# Altium schematic symbol library kmilo17pet-PIC16_Part2.SchLib: 1569 symbols (part 45 of 56)
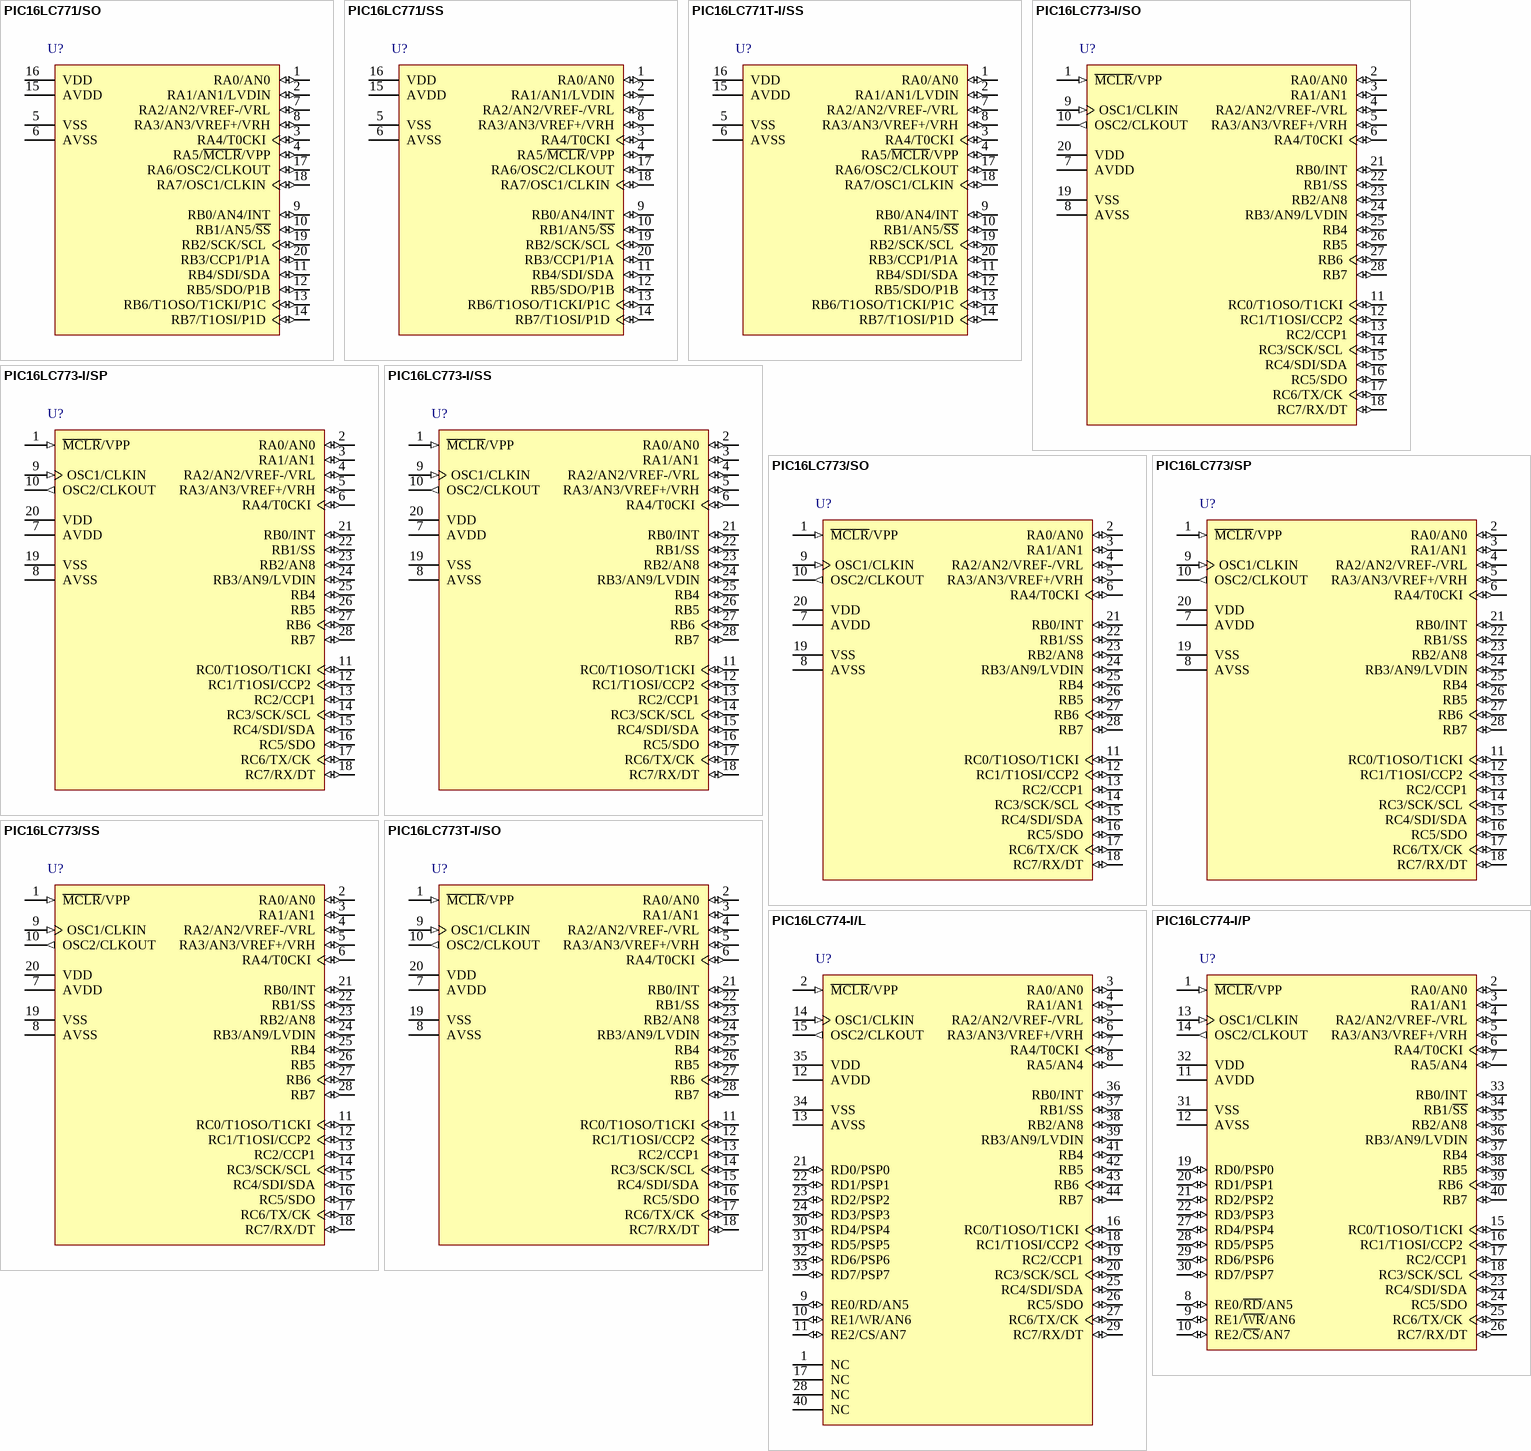
[diagram p169: symbols PIC16LC771/SO to PIC16LC774-I/P]

## PIC16LC773/SS
designator U?
8-Bit CMOS Microcontroller with 12-Bit A/D, 4K (x14-Bit words) Program Memory, 256 Bytes Data Memory, 28-Pin SSOP, Extended VDD Range, Commercial Temperature; Manufacturer: Microchip; PartNumber: PIC16LC773/SS; DatasheetVersion: revA, 1999; PackageVersion: revBB, Aug-2009; PackageReference: SSOP-SS28; PackageDescription: 28-Lead Plastic Shrink Small Outline (SS) - 5.3mm Body [SSOP]; Supplier 1: Digi-Key; Supplier Part Number 1: PIC16LC773/SS-ND; Supplier 2: Mouser; Supplier Part Number 2: 579-PIC16LC773/SS; Code_JEDEC: MS-150; ComponentLink1Description: Manufacturer URL; ComponentLink1URL: http://www.microchip.com/; ComponentLink2Description: Datasheet; ComponentLink2URL: http://ww1.microchip.com/downloads/en/DeviceDoc/30275a.pdf; ComponentLink3Description: Package Specification; ComponentLink3URL: http://www.microchip.com/stellent/groups/techpub_sg/documents/packagingspec/en012702.pdf
footprint SSOP-SS28_N (SOP, 28-Leads, Body 10.2x5.2mm, Pitch 0.65mm, IPC Medium Density)
footprint SSOP-SS28_L (SOP, 28-Leads, Body 10.2x5.2mm, Pitch 0.65mm, IPC High Density)
footprint SSOP-SS28_M (SOP, 28-Leads, Body 10.2x5.2mm, Pitch 0.65mm, IPC Low Density)
pins: 1 ~{MCLR}/VPP (in), 2 RA0/AN0 (io), 3 RA1/AN1 (io), 4 RA2/AN2/VREF-/VRL (io), 5 RA3/AN3/VREF+/VRH (io), 6 RA4/T0CKI (io), 7 AVDD (power), 8 AVSS (power), 9 OSC1/CLKIN (in), 10 OSC2/CLKOUT (out), 11 RC0/T1OSO/T1CKI (io), 12 RC1/T1OSI/CCP2 (io), 13 RC2/CCP1 (io), 14 RC3/SCK/SCL (io), 15 RC4/SDI/SDA (io), 16 RC5/SDO (io), 17 RC6/TX/CK (io), 18 RC7/RX/DT (io), 19 VSS (power), 20 VDD (power), 21 RB0/INT (io), 22 RB1/SS (io), 23 RB2/AN8 (io), 24 RB3/AN9/LVDIN (io), 25 RB4 (io), 26 RB5 (io), 27 RB6 (io), 28 RB7 (io)

## PIC16LC773T-I/SO
designator U?
8-Bit CMOS Microcontroller with 12-Bit A/D, 4K (x14-Bit words) Program Memory, 256 Bytes Data Memory, 28-Pin SOIC, Extended VDD Range, Industrial Temperature, Tape and Reel; Manufacturer: Microchip; PartNumber: PIC16LC773T-I/SO; DatasheetVersion: revA, 1999; PackageVersion: revBB, Aug-2009; PackageReference: SOIC-SO28; PackageDescription: 28-Lead Plastic Small Outline (SO) - Wide 7.50mm Body [SOIC]; Supplier 1: Digi-Key; Supplier Part Number 1: PIC16LC773T-I/SO-ND; Supplier 2: Mouser; Supplier Part Number 2: 579-PIC16LC773T-I/SO; Code_JEDEC: MS-013; ComponentLink1Description: Manufacturer URL; ComponentLink1URL: http://www.microchip.com/; ComponentLink2Description: Datasheet; ComponentLink2URL: http://ww1.microchip.com/downloads/en/DeviceDoc/30275a.pdf; ComponentLink3Description: Package Specification; ComponentLink3URL: http://www.microchip.com/stellent/groups/techpub_sg/documents/packagingspec/en012702.pdf
footprint SOIC-SO28_N (SOIC, 28-Leads, Body 17.9x7.5mm, Pitch 1.27mm, IPC Medium Density)
footprint SOIC-SO28_L (SOIC, 28-Leads, Body 17.9x7.5mm, Pitch 1.27mm, IPC High Density)
footprint SOIC-SO28_M (SOIC, 28-Leads, Body 17.9x7.5mm, Pitch 1.27mm, IPC Low Density)
pins: 1 ~{MCLR}/VPP (in), 2 RA0/AN0 (io), 3 RA1/AN1 (io), 4 RA2/AN2/VREF-/VRL (io), 5 RA3/AN3/VREF+/VRH (io), 6 RA4/T0CKI (io), 7 AVDD (power), 8 AVSS (power), 9 OSC1/CLKIN (in), 10 OSC2/CLKOUT (out), 11 RC0/T1OSO/T1CKI (io), 12 RC1/T1OSI/CCP2 (io), 13 RC2/CCP1 (io), 14 RC3/SCK/SCL (io), 15 RC4/SDI/SDA (io), 16 RC5/SDO (io), 17 RC6/TX/CK (io), 18 RC7/RX/DT (io), 19 VSS (power), 20 VDD (power), 21 RB0/INT (io), 22 RB1/SS (io), 23 RB2/AN8 (io), 24 RB3/AN9/LVDIN (io), 25 RB4 (io), 26 RB5 (io), 27 RB6 (io), 28 RB7 (io)

## PIC16LC774-I/L
designator U?
8-Bit CMOS Microcontroller with 12-Bit A/D, 4K (x14-Bit words) Program Memory, 256 Bytes Data Memory, 44-Pin PLCC, Extended VDD Range, Industrial Temperature; Manufacturer: Microchip; PartNumber: PIC16LC774-I/L; DatasheetVersion: revA, 1999; PackageVersion: revBB, Aug-2009; PackageReference: PLCC-L44; PackageDescription: 44-Lead Plastic Leaded Chip Carrier (L) - Square [PLCC]; Supplier 1: Digi-Key; Supplier Part Number 1: PIC16LC774-I/L-ND; Supplier 2: Mouser; Supplier Part Number 2: 579-PIC16LC774-I/L; Code_JEDEC: MO-047; Code_IPC: PLCC-44; ComponentLink1Description: Manufacturer URL; ComponentLink1URL: http://www.microchip.com/; ComponentLink2Description: Datasheet; ComponentLink2URL: http://ww1.microchip.com/downloads/en/DeviceDoc/30275a.pdf; ComponentLink3Description: Package Specification; ComponentLink3URL: http://www.microchip.com/stellent/groups/techpub_sg/documents/packagingspec/en012702.pdf
footprint PLCC-L44_N (Leaded Chip Carrier, 44-Leads, Body 16.6x16.6mm, Pitch 1.27mm, IPC Medium Density)
footprint PLCC-L44_L (Leaded Chip Carrier, 44-Leads, Body 16.6x16.6mm, Pitch 1.27mm, IPC High Density)
footprint PLCC-L44_M (Leaded Chip Carrier, 44-Leads, Body 16.6x16.6mm, Pitch 1.27mm, IPC Low Density)
pins: 1 NC, 2 ~{MCLR}/VPP (in), 3 RA0/AN0 (io), 4 RA1/AN1 (io), 5 RA2/AN2/VREF-/VRL (io), 6 RA3/AN3/VREF+/VRH (io), 7 RA4/T0CKI (io), 8 RA5/AN4 (io), 9 RE0/RD/AN5 (io), 10 RE1/WR/AN6 (io), 11 RE2/CS/AN7 (io), 12 AVDD (power), 13 AVSS (power), 14 OSC1/CLKIN (in), 15 OSC2/CLKOUT (out), 16 RC0/T1OSO/T1CKI (io), 17 NC, 18 RC1/T1OSI/CCP2 (io), 19 RC2/CCP1 (io), 20 RC3/SCK/SCL (io), 21 RD0/PSP0 (io), 22 RD1/PSP1 (io), 23 RD2/PSP2 (io), 24 RD3/PSP3 (io), 25 RC4/SDI/SDA (io), 26 RC5/SDO (io), 27 RC6/TX/CK (io), 28 NC, 29 RC7/RX/DT (io), 30 RD4/PSP4 (io), 31 RD5/PSP5 (io), 32 RD6/PSP6 (io), 33 RD7/PSP7 (io), 34 VSS (power), 35 VDD (power), 36 RB0/INT (io), 37 RB1/SS (io), 38 RB2/AN8 (io), 39 RB3/AN9/LVDIN (io), 40 NC, 41 RB4 (io), 42 RB5 (io), 43 RB6 (io), 44 RB7 (io)

## PIC16LC774-I/P
designator U?
8-Bit CMOS Microcontroller with 12-Bit A/D, 4K (x14-Bit words) Program Memory, 256 Bytes Data Memory, 40-Pin PDIP, Extended VDD Range, Industrial Temperature; Manufacturer: Microchip; PartNumber: PIC16LC774-I/P; DatasheetVersion: revA, 1999; PackageVersion: revBB, Aug-2009; PackageReference: PDIP600-P40; PackageDescription: 40-Lead Plastic Dual In-Line (P) - 600 mil Body [PDIP]; Supplier 1: Digi-Key; Supplier Part Number 1: PIC16LC774-I/P-ND; Supplier 2: Mouser; Supplier Part Number 2: 579-PIC16LC774-I/P; ComponentLink1Description: Manufacturer URL; ComponentLink1URL: http://www.microchip.com/; ComponentLink2Description: Datasheet; ComponentLink2URL: http://ww1.microchip.com/downloads/en/DeviceDoc/30275a.pdf; ComponentLink3Description: Package Specification; ComponentLink3URL: http://www.microchip.com/stellent/groups/techpub_sg/documents/packagingspec/en012702.pdf
footprint PDIP600-P40 (DIP, 40-Leads, Row Spacing 15.24mm, Pitch 2.54mm, Body 51.8x13.5mm)
pins: 1 ~{MCLR}/VPP (in), 2 RA0/AN0 (io), 3 RA1/AN1 (io), 4 RA2/AN2/VREF-/VRL (io), 5 RA3/AN3/VREF+/VRH (io), 6 RA4/T0CKI (io), 7 RA5/AN4 (io), 8 RE0/~{RD}/AN5 (io), 9 RE1/~{WR}/AN6 (io), 10 RE2/~{CS}/AN7 (io), 11 AVDD (power), 12 AVSS (power), 13 OSC1/CLKIN (in), 14 OSC2/CLKOUT (out), 15 RC0/T1OSO/T1CKI (io), 16 RC1/T1OSI/CCP2 (io), 17 RC2/CCP1 (io), 18 RC3/SCK/SCL (io), 19 RD0/PSP0 (io), 20 RD1/PSP1 (io), 21 RD2/PSP2 (io), 22 RD3/PSP3 (io), 23 RC4/SDI/SDA (io), 24 RC5/SDO (io), 25 RC6/TX/CK (io), 26 RC7/RX/DT (io), 27 RD4/PSP4 (io), 28 RD5/PSP5 (io), 29 RD6/PSP6 (io), 30 RD7/PSP7 (io), 31 VSS (power), 32 VDD (power), 33 RB0/INT (io), 34 RB1/~{SS} (io), 35 RB2/AN8 (io), 36 RB3/AN9/LVDIN (io), 37 RB4 (io), 38 RB5 (io), 39 RB6 (io), 40 RB7 (io)

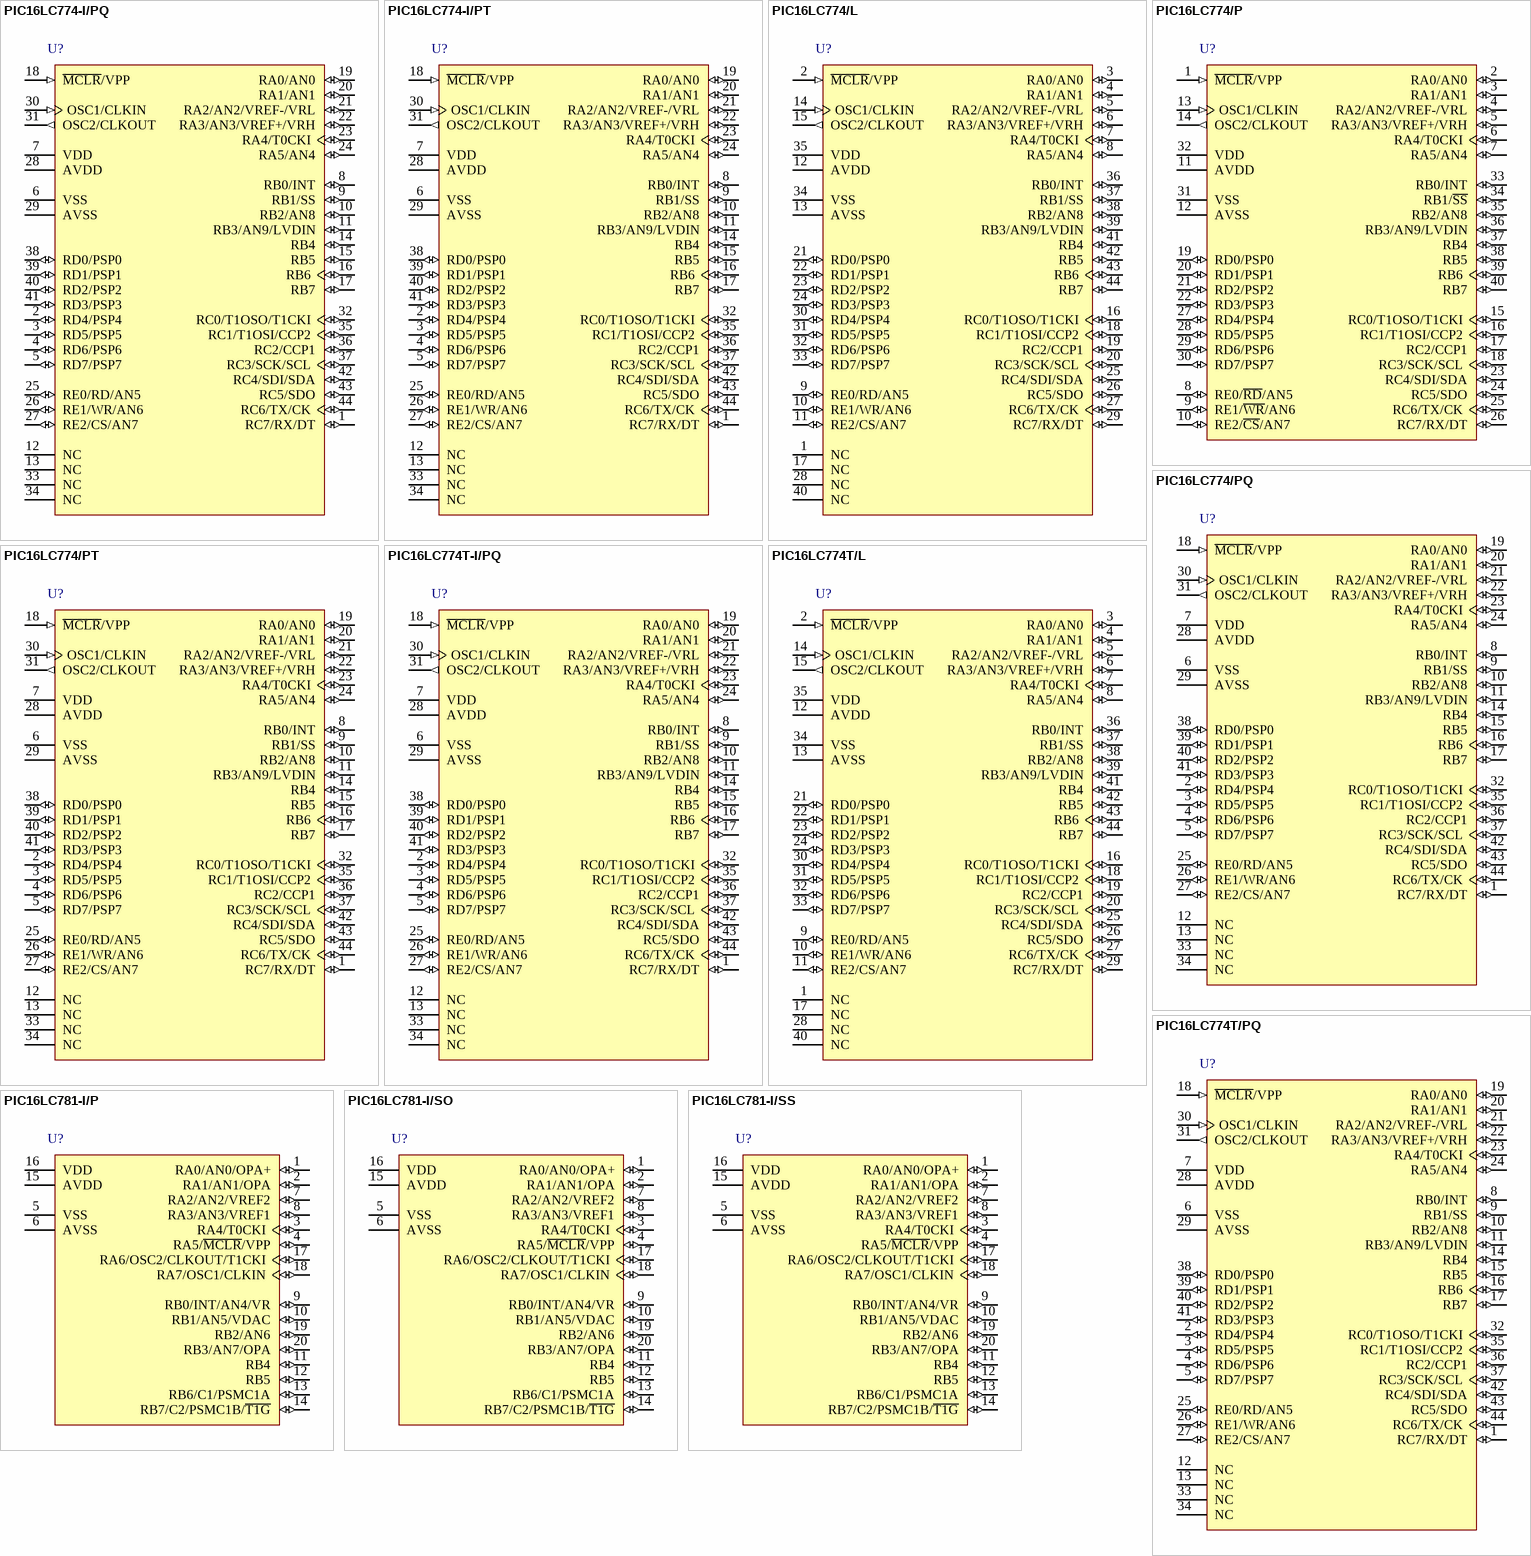
[diagram p96: symbols PIC16LC774-I/PQ to PIC16LC781-I/SS]

## PIC16LC774-I/PQ
designator U?
8-Bit CMOS Microcontroller with 12-Bit A/D, 4K (x14-Bit words) Program Memory, 256 Bytes Data Memory, 44-Pin MQFP, Extended VDD Range, Industrial Temperature; Manufacturer: Microchip; PartNumber: PIC16LC774-I/PQ; DatasheetVersion: revA, 1999; PackageVersion: revBB, Aug-2009; PackageReference: MQFP-PQ44; PackageDescription: 44-Lead Plastic Metric Quad Flatpack (PQ) - 10x10x2mm Body, 3.20mm [MQFP]; Supplier 1: Digi-Key; Supplier Part Number 1: PIC16LC774-I/PQ-ND; Supplier 2: Mouser; Supplier Part Number 2: 579-PIC16LC774-I/PQ; Code_JEDEC: MS-022; Code_IPC: QFP80P1320X1320-44; ComponentLink1Description: Manufacturer URL; ComponentLink1URL: http://www.microchip.com/; ComponentLink2Description: Datasheet; ComponentLink2URL: http://ww1.microchip.com/downloads/en/DeviceDoc/30275a.pdf; ComponentLink3Description: Package Specification; ComponentLink3URL: http://www.microchip.com/stellent/groups/techpub_sg/documents/packagingspec/en012702.pdf
footprint MQFP-PQ44_N (QFP, 44-Leads, Body 10x10mm, Pitch 0.8mm, IPC Medium Density)
footprint MQFP-PQ44_L (QFP, 44-Leads, Body 10x10mm, Pitch 0.8mm, IPC High Density)
footprint MQFP-PQ44_M (QFP, 44-Leads, Body 10x10mm, Pitch 0.8mm, IPC Low Density)
pins: 1 RC7/RX/DT (io), 2 RD4/PSP4 (io), 3 RD5/PSP5 (io), 4 RD6/PSP6 (io), 5 RD7/PSP7 (io), 6 VSS (power), 7 VDD (power), 8 RB0/INT (io), 9 RB1/SS (io), 10 RB2/AN8 (io), 11 RB3/AN9/LVDIN (io), 12 NC, 13 NC, 14 RB4 (io), 15 RB5 (io), 16 RB6 (io), 17 RB7 (io), 18 ~{MCLR}/VPP (in), 19 RA0/AN0 (io), 20 RA1/AN1 (io), 21 RA2/AN2/VREF-/VRL (io), 22 RA3/AN3/VREF+/VRH (io), 23 RA4/T0CKI (io), 24 RA5/AN4 (io), 25 RE0/RD/AN5 (io), 26 RE1/WR/AN6 (io), 27 RE2/CS/AN7 (io), 28 AVDD (power), 29 AVSS (power), 30 OSC1/CLKIN (in), 31 OSC2/CLKOUT (out), 32 RC0/T1OSO/T1CKI (io), 33 NC, 34 NC, 35 RC1/T1OSI/CCP2 (io), 36 RC2/CCP1 (io), 37 RC3/SCK/SCL (io), 38 RD0/PSP0 (io), 39 RD1/PSP1 (io), 40 RD2/PSP2 (io), 41 RD3/PSP3 (io), 42 RC4/SDI/SDA (io), 43 RC5/SDO (io), 44 RC6/TX/CK (io)

## PIC16LC774-I/PT
designator U?
8-Bit CMOS Microcontroller with 12-Bit A/D, 4K (x14-Bit words) Program Memory, 256 Bytes Data Memory, 44-Pin TQFP, Extended VDD Range, Industrial Temperature; Manufacturer: Microchip; PartNumber: PIC16LC774-I/PT; DatasheetVersion: revA, 1999; PackageVersion: revBB, Aug-2009; PackageReference: TQFP-PT44; PackageDescription: 44-Lead Plastic Thin Quad Flatpack (PT) - 10x10x1mm Body, 2.00mm [TQFP]; Supplier 1: Digi-Key; Supplier Part Number 1: PIC16LC774-I/PT-ND; Supplier 2: Mouser; Supplier Part Number 2: 579-PIC16LC774-I/PT; Code_JEDEC: MS-026; ComponentLink1Description: Manufacturer URL; ComponentLink1URL: http://www.microchip.com/; ComponentLink2Description: Datasheet; ComponentLink2URL: http://ww1.microchip.com/downloads/en/DeviceDoc/30275a.pdf; ComponentLink3Description: Package Specification; ComponentLink3URL: http://www.microchip.com/stellent/groups/techpub_sg/documents/packagingspec/en012702.pdf
footprint TQFP-PT44_N (Thin QFP, 44-Leads, Body 10x10mm, Pitch 0.8mm, IPC Medium Density)
footprint TQFP-PT44_L (Thin QFP, 44-Leads, Body 10x10mm, Pitch 0.8mm, IPC High Density)
footprint TQFP-PT44_M (Thin QFP, 44-Leads, Body 10x10mm, Pitch 0.8mm, IPC Low Density)
pins: 1 RC7/RX/DT (io), 2 RD4/PSP4 (io), 3 RD5/PSP5 (io), 4 RD6/PSP6 (io), 5 RD7/PSP7 (io), 6 VSS (power), 7 VDD (power), 8 RB0/INT (io), 9 RB1/SS (io), 10 RB2/AN8 (io), 11 RB3/AN9/LVDIN (io), 12 NC, 13 NC, 14 RB4 (io), 15 RB5 (io), 16 RB6 (io), 17 RB7 (io), 18 ~{MCLR}/VPP (in), 19 RA0/AN0 (io), 20 RA1/AN1 (io), 21 RA2/AN2/VREF-/VRL (io), 22 RA3/AN3/VREF+/VRH (io), 23 RA4/T0CKI (io), 24 RA5/AN4 (io), 25 RE0/RD/AN5 (io), 26 RE1/WR/AN6 (io), 27 RE2/CS/AN7 (io), 28 AVDD (power), 29 AVSS (power), 30 OSC1/CLKIN (in), 31 OSC2/CLKOUT (out), 32 RC0/T1OSO/T1CKI (io), 33 NC, 34 NC, 35 RC1/T1OSI/CCP2 (io), 36 RC2/CCP1 (io), 37 RC3/SCK/SCL (io), 38 RD0/PSP0 (io), 39 RD1/PSP1 (io), 40 RD2/PSP2 (io), 41 RD3/PSP3 (io), 42 RC4/SDI/SDA (io), 43 RC5/SDO (io), 44 RC6/TX/CK (io)

## PIC16LC774/L
designator U?
8-Bit CMOS Microcontroller with 12-Bit A/D, 4K (x14-Bit words) Program Memory, 256 Bytes Data Memory, 44-Pin PLCC, Extended VDD Range, Commercial Temperature; Manufacturer: Microchip; PartNumber: PIC16LC774/L; DatasheetVersion: revA, 1999; PackageVersion: revBB, Aug-2009; PackageReference: PLCC-L44; PackageDescription: 44-Lead Plastic Leaded Chip Carrier (L) - Square [PLCC]; Supplier 1: Digi-Key; Supplier Part Number 1: PIC16LC774/L-ND; Supplier 2: Mouser; Supplier Part Number 2: 579-PIC16LC774/L; Code_JEDEC: MO-047; Code_IPC: PLCC-44; ComponentLink1Description: Manufacturer URL; ComponentLink1URL: http://www.microchip.com/; ComponentLink2Description: Datasheet; ComponentLink2URL: http://ww1.microchip.com/downloads/en/DeviceDoc/30275a.pdf; ComponentLink3Description: Package Specification; ComponentLink3URL: http://www.microchip.com/stellent/groups/techpub_sg/documents/packagingspec/en012702.pdf
footprint PLCC-L44_N (Leaded Chip Carrier, 44-Leads, Body 16.6x16.6mm, Pitch 1.27mm, IPC Medium Density)
footprint PLCC-L44_L (Leaded Chip Carrier, 44-Leads, Body 16.6x16.6mm, Pitch 1.27mm, IPC High Density)
footprint PLCC-L44_M (Leaded Chip Carrier, 44-Leads, Body 16.6x16.6mm, Pitch 1.27mm, IPC Low Density)
pins: 1 NC, 2 ~{MCLR}/VPP (in), 3 RA0/AN0 (io), 4 RA1/AN1 (io), 5 RA2/AN2/VREF-/VRL (io), 6 RA3/AN3/VREF+/VRH (io), 7 RA4/T0CKI (io), 8 RA5/AN4 (io), 9 RE0/RD/AN5 (io), 10 RE1/WR/AN6 (io), 11 RE2/CS/AN7 (io), 12 AVDD (power), 13 AVSS (power), 14 OSC1/CLKIN (in), 15 OSC2/CLKOUT (out), 16 RC0/T1OSO/T1CKI (io), 17 NC, 18 RC1/T1OSI/CCP2 (io), 19 RC2/CCP1 (io), 20 RC3/SCK/SCL (io), 21 RD0/PSP0 (io), 22 RD1/PSP1 (io), 23 RD2/PSP2 (io), 24 RD3/PSP3 (io), 25 RC4/SDI/SDA (io), 26 RC5/SDO (io), 27 RC6/TX/CK (io), 28 NC, 29 RC7/RX/DT (io), 30 RD4/PSP4 (io), 31 RD5/PSP5 (io), 32 RD6/PSP6 (io), 33 RD7/PSP7 (io), 34 VSS (power), 35 VDD (power), 36 RB0/INT (io), 37 RB1/SS (io), 38 RB2/AN8 (io), 39 RB3/AN9/LVDIN (io), 40 NC, 41 RB4 (io), 42 RB5 (io), 43 RB6 (io), 44 RB7 (io)

## PIC16LC774/P
designator U?
8-Bit CMOS Microcontroller with 12-Bit A/D, 4K (x14-Bit words) Program Memory, 256 Bytes Data Memory, 40-Pin PDIP, Extended VDD Range, Commercial Temperature; Manufacturer: Microchip; PartNumber: PIC16LC774/P; DatasheetVersion: revA, 1999; PackageVersion: revBB, Aug-2009; PackageReference: PDIP600-P40; PackageDescription: 40-Lead Plastic Dual In-Line (P) - 600 mil Body [PDIP]; Supplier 1: Digi-Key; Supplier Part Number 1: PIC16LC774/P-ND; Supplier 2: Mouser; Supplier Part Number 2: 579-PIC16LC774/P; ComponentLink1Description: Manufacturer URL; ComponentLink1URL: http://www.microchip.com/; ComponentLink2Description: Datasheet; ComponentLink2URL: http://ww1.microchip.com/downloads/en/DeviceDoc/30275a.pdf; ComponentLink3Description: Package Specification; ComponentLink3URL: http://www.microchip.com/stellent/groups/techpub_sg/documents/packagingspec/en012702.pdf
footprint PDIP600-P40 (DIP, 40-Leads, Row Spacing 15.24mm, Pitch 2.54mm, Body 51.8x13.5mm)
pins: 1 ~{MCLR}/VPP (in), 2 RA0/AN0 (io), 3 RA1/AN1 (io), 4 RA2/AN2/VREF-/VRL (io), 5 RA3/AN3/VREF+/VRH (io), 6 RA4/T0CKI (io), 7 RA5/AN4 (io), 8 RE0/~{RD}/AN5 (io), 9 RE1/~{WR}/AN6 (io), 10 RE2/~{CS}/AN7 (io), 11 AVDD (power), 12 AVSS (power), 13 OSC1/CLKIN (in), 14 OSC2/CLKOUT (out), 15 RC0/T1OSO/T1CKI (io), 16 RC1/T1OSI/CCP2 (io), 17 RC2/CCP1 (io), 18 RC3/SCK/SCL (io), 19 RD0/PSP0 (io), 20 RD1/PSP1 (io), 21 RD2/PSP2 (io), 22 RD3/PSP3 (io), 23 RC4/SDI/SDA (io), 24 RC5/SDO (io), 25 RC6/TX/CK (io), 26 RC7/RX/DT (io), 27 RD4/PSP4 (io), 28 RD5/PSP5 (io), 29 RD6/PSP6 (io), 30 RD7/PSP7 (io), 31 VSS (power), 32 VDD (power), 33 RB0/INT (io), 34 RB1/~{SS} (io), 35 RB2/AN8 (io), 36 RB3/AN9/LVDIN (io), 37 RB4 (io), 38 RB5 (io), 39 RB6 (io), 40 RB7 (io)

## PIC16LC774/PQ
designator U?
8-Bit CMOS Microcontroller with 12-Bit A/D, 4K (x14-Bit words) Program Memory, 256 Bytes Data Memory, 44-Pin MQFP, Extended VDD Range, Commercial Temperature; Manufacturer: Microchip; PartNumber: PIC16LC774/PQ; DatasheetVersion: revA, 1999; PackageVersion: revBB, Aug-2009; PackageReference: MQFP-PQ44; PackageDescription: 44-Lead Plastic Metric Quad Flatpack (PQ) - 10x10x2mm Body, 3.20mm [MQFP]; Supplier 1: Digi-Key; Supplier Part Number 1: PIC16LC774/PQ-ND; Supplier 2: Mouser; Supplier Part Number 2: 579-PIC16LC774/PQ; Code_JEDEC: MS-022; Code_IPC: QFP80P1320X1320-44; ComponentLink1Description: Manufacturer URL; ComponentLink1URL: http://www.microchip.com/; ComponentLink2Description: Datasheet; ComponentLink2URL: http://ww1.microchip.com/downloads/en/DeviceDoc/30275a.pdf; ComponentLink3Description: Package Specification; ComponentLink3URL: http://www.microchip.com/stellent/groups/techpub_sg/documents/packagingspec/en012702.pdf
footprint MQFP-PQ44_N (QFP, 44-Leads, Body 10x10mm, Pitch 0.8mm, IPC Medium Density)
footprint MQFP-PQ44_L (QFP, 44-Leads, Body 10x10mm, Pitch 0.8mm, IPC High Density)
footprint MQFP-PQ44_M (QFP, 44-Leads, Body 10x10mm, Pitch 0.8mm, IPC Low Density)
pins: 1 RC7/RX/DT (io), 2 RD4/PSP4 (io), 3 RD5/PSP5 (io), 4 RD6/PSP6 (io), 5 RD7/PSP7 (io), 6 VSS (power), 7 VDD (power), 8 RB0/INT (io), 9 RB1/SS (io), 10 RB2/AN8 (io), 11 RB3/AN9/LVDIN (io), 12 NC, 13 NC, 14 RB4 (io), 15 RB5 (io), 16 RB6 (io), 17 RB7 (io), 18 ~{MCLR}/VPP (in), 19 RA0/AN0 (io), 20 RA1/AN1 (io), 21 RA2/AN2/VREF-/VRL (io), 22 RA3/AN3/VREF+/VRH (io), 23 RA4/T0CKI (io), 24 RA5/AN4 (io), 25 RE0/RD/AN5 (io), 26 RE1/WR/AN6 (io), 27 RE2/CS/AN7 (io), 28 AVDD (power), 29 AVSS (power), 30 OSC1/CLKIN (in), 31 OSC2/CLKOUT (out), 32 RC0/T1OSO/T1CKI (io), 33 NC, 34 NC, 35 RC1/T1OSI/CCP2 (io), 36 RC2/CCP1 (io), 37 RC3/SCK/SCL (io), 38 RD0/PSP0 (io), 39 RD1/PSP1 (io), 40 RD2/PSP2 (io), 41 RD3/PSP3 (io), 42 RC4/SDI/SDA (io), 43 RC5/SDO (io), 44 RC6/TX/CK (io)

## PIC16LC774/PT
designator U?
8-Bit CMOS Microcontroller with 12-Bit A/D, 4K (x14-Bit words) Program Memory, 256 Bytes Data Memory, 44-Pin TQFP, Extended VDD Range, Commercial Temperature; Manufacturer: Microchip; PartNumber: PIC16LC774/PT; DatasheetVersion: revA, 1999; PackageVersion: revBB, Aug-2009; PackageReference: TQFP-PT44; PackageDescription: 44-Lead Plastic Thin Quad Flatpack (PT) - 10x10x1mm Body, 2.00mm [TQFP]; Supplier 1: Digi-Key; Supplier Part Number 1: PIC16LC774/PT-ND; Supplier 2: Mouser; Supplier Part Number 2: 579-PIC16LC774/PT; Code_JEDEC: MS-026; ComponentLink1Description: Manufacturer URL; ComponentLink1URL: http://www.microchip.com/; ComponentLink2Description: Datasheet; ComponentLink2URL: http://ww1.microchip.com/downloads/en/DeviceDoc/30275a.pdf; ComponentLink3Description: Package Specification; ComponentLink3URL: http://www.microchip.com/stellent/groups/techpub_sg/documents/packagingspec/en012702.pdf
footprint TQFP-PT44_N (Thin QFP, 44-Leads, Body 10x10mm, Pitch 0.8mm, IPC Medium Density)
footprint TQFP-PT44_L (Thin QFP, 44-Leads, Body 10x10mm, Pitch 0.8mm, IPC High Density)
footprint TQFP-PT44_M (Thin QFP, 44-Leads, Body 10x10mm, Pitch 0.8mm, IPC Low Density)
pins: 1 RC7/RX/DT (io), 2 RD4/PSP4 (io), 3 RD5/PSP5 (io), 4 RD6/PSP6 (io), 5 RD7/PSP7 (io), 6 VSS (power), 7 VDD (power), 8 RB0/INT (io), 9 RB1/SS (io), 10 RB2/AN8 (io), 11 RB3/AN9/LVDIN (io), 12 NC, 13 NC, 14 RB4 (io), 15 RB5 (io), 16 RB6 (io), 17 RB7 (io), 18 ~{MCLR}/VPP (in), 19 RA0/AN0 (io), 20 RA1/AN1 (io), 21 RA2/AN2/VREF-/VRL (io), 22 RA3/AN3/VREF+/VRH (io), 23 RA4/T0CKI (io), 24 RA5/AN4 (io), 25 RE0/RD/AN5 (io), 26 RE1/WR/AN6 (io), 27 RE2/CS/AN7 (io), 28 AVDD (power), 29 AVSS (power), 30 OSC1/CLKIN (in), 31 OSC2/CLKOUT (out), 32 RC0/T1OSO/T1CKI (io), 33 NC, 34 NC, 35 RC1/T1OSI/CCP2 (io), 36 RC2/CCP1 (io), 37 RC3/SCK/SCL (io), 38 RD0/PSP0 (io), 39 RD1/PSP1 (io), 40 RD2/PSP2 (io), 41 RD3/PSP3 (io), 42 RC4/SDI/SDA (io), 43 RC5/SDO (io), 44 RC6/TX/CK (io)

## PIC16LC774T-I/PQ
designator U?
8-Bit CMOS Microcontroller with 12-Bit A/D, 4K (x14-Bit words) Program Memory, 256 Bytes Data Memory, 44-Pin MQFP, Extended VDD Range, Industrial Temperature, Tape and Reel; Manufacturer: Microchip; PartNumber: PIC16LC774T-I/PQ; Note: AVDD and AVSS pins are used for modules C1, C2, OPA, DAC, ADC, and VR.; DatasheetVersion: revA, 1999; PackageVersion: revBB, Aug-2009; PackageReference: MQFP-PQ44; PackageDescription: 44-Lead Plastic Metric Quad Flatpack (PQ) - 10x10x2mm Body, 3.20mm [MQFP]; Supplier 1: Digi-Key; Supplier Part Number 1: PIC16LC774T-I/PQ-ND; Supplier 2: Mouser; Supplier Part Number 2: 579-PIC16LC774T-I/PQ; Code_JEDEC: MS-022; Code_IPC: QFP80P1320X1320-44; ComponentLink1Description: Manufacturer URL; ComponentLink1URL: http://www.microchip.com/; ComponentLink2Description: Datasheet; ComponentLink2URL: http://ww1.microchip.com/downloads/en/DeviceDoc/30275a.pdf; ComponentLink3Description: Package Specification; ComponentLink3URL: http://www.microchip.com/stellent/groups/techpub_sg/documents/packagingspec/en012702.pdf
footprint MQFP-PQ44_N (QFP, 44-Leads, Body 10x10mm, Pitch 0.8mm, IPC Medium Density)
footprint MQFP-PQ44_L (QFP, 44-Leads, Body 10x10mm, Pitch 0.8mm, IPC High Density)
footprint MQFP-PQ44_M (QFP, 44-Leads, Body 10x10mm, Pitch 0.8mm, IPC Low Density)
pins: 1 RC7/RX/DT (io), 2 RD4/PSP4 (io), 3 RD5/PSP5 (io), 4 RD6/PSP6 (io), 5 RD7/PSP7 (io), 6 VSS (power), 7 VDD (power), 8 RB0/INT (io), 9 RB1/SS (io), 10 RB2/AN8 (io), 11 RB3/AN9/LVDIN (io), 12 NC, 13 NC, 14 RB4 (io), 15 RB5 (io), 16 RB6 (io), 17 RB7 (io), 18 ~{MCLR}/VPP (in), 19 RA0/AN0 (io), 20 RA1/AN1 (io), 21 RA2/AN2/VREF-/VRL (io), 22 RA3/AN3/VREF+/VRH (io), 23 RA4/T0CKI (io), 24 RA5/AN4 (io), 25 RE0/RD/AN5 (io), 26 RE1/WR/AN6 (io), 27 RE2/CS/AN7 (io), 28 AVDD (power), 29 AVSS (power), 30 OSC1/CLKIN (in), 31 OSC2/CLKOUT (out), 32 RC0/T1OSO/T1CKI (io), 33 NC, 34 NC, 35 RC1/T1OSI/CCP2 (io), 36 RC2/CCP1 (io), 37 RC3/SCK/SCL (io), 38 RD0/PSP0 (io), 39 RD1/PSP1 (io), 40 RD2/PSP2 (io), 41 RD3/PSP3 (io), 42 RC4/SDI/SDA (io), 43 RC5/SDO (io), 44 RC6/TX/CK (io)

## PIC16LC774T/L
designator U?
8-Bit CMOS Microcontroller with 12-Bit A/D, 4K (x14-Bit words) Program Memory, 256 Bytes Data Memory, 44-Pin PLCC, Extended VDD Range, Commercial Temperature, Tape and Reel; Manufacturer: Microchip; PartNumber: PIC16LC774T/L; DatasheetVersion: revA, 1999; PackageVersion: revBB, Aug-2009; PackageReference: PLCC-L44; PackageDescription: 44-Lead Plastic Leaded Chip Carrier (L) - Square [PLCC]; Supplier 1: Digi-Key; Supplier Part Number 1: PIC16LC774T/L-ND; Supplier 2: Mouser; Supplier Part Number 2: 579-PIC16LC774T/L; Code_JEDEC: MO-047; Code_IPC: PLCC-44; ComponentLink1Description: Manufacturer URL; ComponentLink1URL: http://www.microchip.com/; ComponentLink2Description: Datasheet; ComponentLink2URL: http://ww1.microchip.com/downloads/en/DeviceDoc/30275a.pdf; ComponentLink3Description: Package Specification; ComponentLink3URL: http://www.microchip.com/stellent/groups/techpub_sg/documents/packagingspec/en012702.pdf
footprint PLCC-L44_N (Leaded Chip Carrier, 44-Leads, Body 16.6x16.6mm, Pitch 1.27mm, IPC Medium Density)
footprint PLCC-L44_L (Leaded Chip Carrier, 44-Leads, Body 16.6x16.6mm, Pitch 1.27mm, IPC High Density)
footprint PLCC-L44_M (Leaded Chip Carrier, 44-Leads, Body 16.6x16.6mm, Pitch 1.27mm, IPC Low Density)
pins: 1 NC, 2 ~{MCLR}/VPP (in), 3 RA0/AN0 (io), 4 RA1/AN1 (io), 5 RA2/AN2/VREF-/VRL (io), 6 RA3/AN3/VREF+/VRH (io), 7 RA4/T0CKI (io), 8 RA5/AN4 (io), 9 RE0/RD/AN5 (io), 10 RE1/WR/AN6 (io), 11 RE2/CS/AN7 (io), 12 AVDD (power), 13 AVSS (power), 14 OSC1/CLKIN (in), 15 OSC2/CLKOUT (out), 16 RC0/T1OSO/T1CKI (io), 17 NC, 18 RC1/T1OSI/CCP2 (io), 19 RC2/CCP1 (io), 20 RC3/SCK/SCL (io), 21 RD0/PSP0 (io), 22 RD1/PSP1 (io), 23 RD2/PSP2 (io), 24 RD3/PSP3 (io), 25 RC4/SDI/SDA (io), 26 RC5/SDO (io), 27 RC6/TX/CK (io), 28 NC, 29 RC7/RX/DT (io), 30 RD4/PSP4 (io), 31 RD5/PSP5 (io), 32 RD6/PSP6 (io), 33 RD7/PSP7 (io), 34 VSS (power), 35 VDD (power), 36 RB0/INT (io), 37 RB1/SS (io), 38 RB2/AN8 (io), 39 RB3/AN9/LVDIN (io), 40 NC, 41 RB4 (io), 42 RB5 (io), 43 RB6 (io), 44 RB7 (io)

## PIC16LC774T/PQ
designator U?
8-Bit CMOS Microcontroller with 12-Bit A/D, 4K (x14-Bit words) Program Memory, 256 Bytes Data Memory, 44-Pin MQFP, Extended VDD Range, Commercial Temperature, Tape and Reel; Manufacturer: Microchip; PartNumber: PIC16LC774T/PQ; DatasheetVersion: revA, 1999; PackageVersion: revBB, Aug-2009; PackageReference: MQFP-PQ44; PackageDescription: 44-Lead Plastic Metric Quad Flatpack (PQ) - 10x10x2mm Body, 3.20mm [MQFP]; Supplier 1: Digi-Key; Supplier Part Number 1: PIC16LC774T/PQ-ND; Supplier 2: Mouser; Supplier Part Number 2: 579-PIC16LC774T/PQ; Code_JEDEC: MS-022; Code_IPC: QFP80P1320X1320-44; ComponentLink1Description: Manufacturer URL; ComponentLink1URL: http://www.microchip.com/; ComponentLink2Description: Datasheet; ComponentLink2URL: http://ww1.microchip.com/downloads/en/DeviceDoc/30275a.pdf; ComponentLink3Description: Package Specification; ComponentLink3URL: http://www.microchip.com/stellent/groups/techpub_sg/documents/packagingspec/en012702.pdf
footprint MQFP-PQ44_N (QFP, 44-Leads, Body 10x10mm, Pitch 0.8mm, IPC Medium Density)
footprint MQFP-PQ44_L (QFP, 44-Leads, Body 10x10mm, Pitch 0.8mm, IPC High Density)
footprint MQFP-PQ44_M (QFP, 44-Leads, Body 10x10mm, Pitch 0.8mm, IPC Low Density)
pins: 1 RC7/RX/DT (io), 2 RD4/PSP4 (io), 3 RD5/PSP5 (io), 4 RD6/PSP6 (io), 5 RD7/PSP7 (io), 6 VSS (power), 7 VDD (power), 8 RB0/INT (io), 9 RB1/SS (io), 10 RB2/AN8 (io), 11 RB3/AN9/LVDIN (io), 12 NC, 13 NC, 14 RB4 (io), 15 RB5 (io), 16 RB6 (io), 17 RB7 (io), 18 ~{MCLR}/VPP (in), 19 RA0/AN0 (io), 20 RA1/AN1 (io), 21 RA2/AN2/VREF-/VRL (io), 22 RA3/AN3/VREF+/VRH (io), 23 RA4/T0CKI (io), 24 RA5/AN4 (io), 25 RE0/RD/AN5 (io), 26 RE1/WR/AN6 (io), 27 RE2/CS/AN7 (io), 28 AVDD (power), 29 AVSS (power), 30 OSC1/CLKIN (in), 31 OSC2/CLKOUT (out), 32 RC0/T1OSO/T1CKI (io), 33 NC, 34 NC, 35 RC1/T1OSI/CCP2 (io), 36 RC2/CCP1 (io), 37 RC3/SCK/SCL (io), 38 RD0/PSP0 (io), 39 RD1/PSP1 (io), 40 RD2/PSP2 (io), 41 RD3/PSP3 (io), 42 RC4/SDI/SDA (io), 43 RC5/SDO (io), 44 RC6/TX/CK (io)

## PIC16LC781-I/P
designator U?
8-Bit CMOS Microcontroller with A/D, D/A, OPAMP, Comparators and PSMC, 1K (x14-Bit words) EPROM, 128 Bytes RAM, 20-Pin PDIP, 2.7 to 5.5V Supply Range, Industrial Temperature; Manufacturer: Microchip; PartNumber: PIC16LC781-I/P; Note: AVDD and AVSS pins are used for modules C1, C2, OPA, DAC, ADC, and VR.; DatasheetVersion: revA, Nov-2002; PackageVersion: revBB, Aug-2009; PackageReference: PDIP300-P20; PackageDescription: 20-Lead Plastic Dual In-Line (P) - 300 mil Body [PDIP]; Supplier 1: Digi-Key; Supplier Part Number 1: PIC16LC781-I/P-ND; Supplier 2: Mouser; Supplier Part Number 2: 579-PIC16LC781-I/P; ComponentLink1Description: Manufacturer URL; ComponentLink1URL: http://www.microchip.com/; ComponentLink2Description: Datasheet; ComponentLink2URL: http://ww1.microchip.com/downloads/en/DeviceDoc/41171a.pdf; ComponentLink3Description: Package Specification; ComponentLink3URL: http://www.microchip.com/stellent/groups/techpub_sg/documents/packagingspec/en012702.pdf
footprint PDIP300-P20 (DIP, 20-Leads, Row Spacing 7.62mm, Pitch 2.54mm, Body 25.9x6.6mm)
pins: 1 RA0/AN0/OPA+ (io), 2 RA1/AN1/OPA (io), 3 RA4/T0CKI (io), 4 RA5/~{MCLR}/VPP (io), 5 VSS (power), 6 AVSS (power), 7 RA2/AN2/VREF2 (io), 8 RA3/AN3/VREF1 (io), 9 RB0/INT/AN4/VR (io), 10 RB1/AN5/VDAC (io), 11 RB4 (io), 12 RB5 (io), 13 RB6/C1/PSMC1A (io), 14 RB7/C2/PSMC1B/~{T1G} (io), 15 AVDD (power), 16 VDD (power), 17 RA6/OSC2/CLKOUT/T1CKI (io), 18 RA7/OSC1/CLKIN (io), 19 RB2/AN6 (io), 20 RB3/AN7/OPA (io)

## PIC16LC781-I/SO
designator U?
8-Bit CMOS Microcontroller with A/D, D/A, OPAMP, Comparators and PSMC, 1K (x14-Bit words) EPROM, 128 Bytes RAM, 20-Pin SOIC, 2.7 to 5.5V Supply Range, Industrial Temperature; Manufacturer: Microchip; PartNumber: PIC16LC781-I/SO; Note: AVDD and AVSS pins are used for modules C1, C2, OPA, DAC, ADC, and VR.; DatasheetVersion: revA, Nov-2002; PackageVersion: revBB, Aug-2009; PackageReference: SOIC-SO20; PackageDescription: 20-Lead Plastic Small Outline (SO) - Wide 7.50mm Body [SOIC]; Supplier 1: Digi-Key; Supplier Part Number 1: PIC16LC781-I/SO-ND; Supplier 2: Mouser; Supplier Part Number 2: 579-PIC16LC781-I/SO; Code_JEDEC: MS-013-AC; Code_IPC: SOIC127P1030-20; ComponentLink1Description: Manufacturer URL; ComponentLink1URL: http://www.microchip.com/; ComponentLink2Description: Datasheet; ComponentLink2URL: http://ww1.microchip.com/downloads/en/DeviceDoc/41171a.pdf; ComponentLink3Description: Package Specification; ComponentLink3URL: http://www.microchip.com/stellent/groups/techpub_sg/documents/packagingspec/en012702.pdf
footprint SOIC-SO20_N (SOIC, 20-Leads, Body 12.8x7.5mm, Pitch 1.27mm, IPC Medium Density)
footprint SOIC-SO20_L (SOIC, 20-Leads, Body 12.8x7.5mm, Pitch 1.27mm, IPC High Density)
footprint SOIC-SO20_M (SOIC, 20-Leads, Body 12.8x7.5mm, Pitch 1.27mm, IPC Low Density)
pins: 1 RA0/AN0/OPA+ (io), 2 RA1/AN1/OPA (io), 3 RA4/T0CKI (io), 4 RA5/~{MCLR}/VPP (io), 5 VSS (power), 6 AVSS (power), 7 RA2/AN2/VREF2 (io), 8 RA3/AN3/VREF1 (io), 9 RB0/INT/AN4/VR (io), 10 RB1/AN5/VDAC (io), 11 RB4 (io), 12 RB5 (io), 13 RB6/C1/PSMC1A (io), 14 RB7/C2/PSMC1B/~{T1G} (io), 15 AVDD (power), 16 VDD (power), 17 RA6/OSC2/CLKOUT/T1CKI (io), 18 RA7/OSC1/CLKIN (io), 19 RB2/AN6 (io), 20 RB3/AN7/OPA (io)

## PIC16LC781-I/SS
designator U?
8-Bit CMOS Microcontroller with A/D, D/A, OPAMP, Comparators and PSMC, 1K (x14-Bit words) EPROM, 128 Bytes RAM, 20-Pin SSOP, 2.7 to 5.5V Supply Range, Industrial Temperature; Manufacturer: Microchip; PartNumber: PIC16LC781-I/SS; Note: AVDD and AVSS pins are used for modules C1, C2, OPA, DAC, ADC, and VR.; DatasheetVersion: revA, Nov-2002; PackageVersion: revBB, Aug-2009; PackageReference: SSOP-SS20; PackageDescription: 20-Lead Plastic Shrink Small Outline (SS) - 5.3mm Body [SSOP]; Supplier 1: Digi-Key; Supplier Part Number 1: PIC16LC781-I/SS-ND; Supplier 2: Mouser; Supplier Part Number 2: 579-PIC16LC781-I/SS; Code_JEDEC: MO-150; ComponentLink1Description: Manufacturer URL; ComponentLink1URL: http://www.microchip.com/; ComponentLink2Description: Datasheet; ComponentLink2URL: http://ww1.microchip.com/downloads/en/DeviceDoc/41171a.pdf; ComponentLink3Description: Package Specification; ComponentLink3URL: http://www.microchip.com/stellent/groups/techpub_sg/documents/packagingspec/en012702.pdf
footprint SSOP-SS20_N (SOP, 20-Leads, Body 7.2x5.2mm, Pitch 0.65mm, IPC Medium Density)
footprint SSOP-SS20_L (SOP, 20-Leads, Body 7.2x5.2mm, Pitch 0.65mm, IPC High Density)
footprint SSOP-SS20_M (SOP, 20-Leads, Body 7.2x5.2mm, Pitch 0.65mm, IPC Low Density)
pins: 1 RA0/AN0/OPA+ (io), 2 RA1/AN1/OPA (io), 3 RA4/T0CKI (io), 4 RA5/~{MCLR}/VPP (io), 5 VSS (power), 6 AVSS (power), 7 RA2/AN2/VREF2 (io), 8 RA3/AN3/VREF1 (io), 9 RB0/INT/AN4/VR (io), 10 RB1/AN5/VDAC (io), 11 RB4 (io), 12 RB5 (io), 13 RB6/C1/PSMC1A (io), 14 RB7/C2/PSMC1B/~{T1G} (io), 15 AVDD (power), 16 VDD (power), 17 RA6/OSC2/CLKOUT/T1CKI (io), 18 RA7/OSC1/CLKIN (io), 19 RB2/AN6 (io), 20 RB3/AN7/OPA (io)

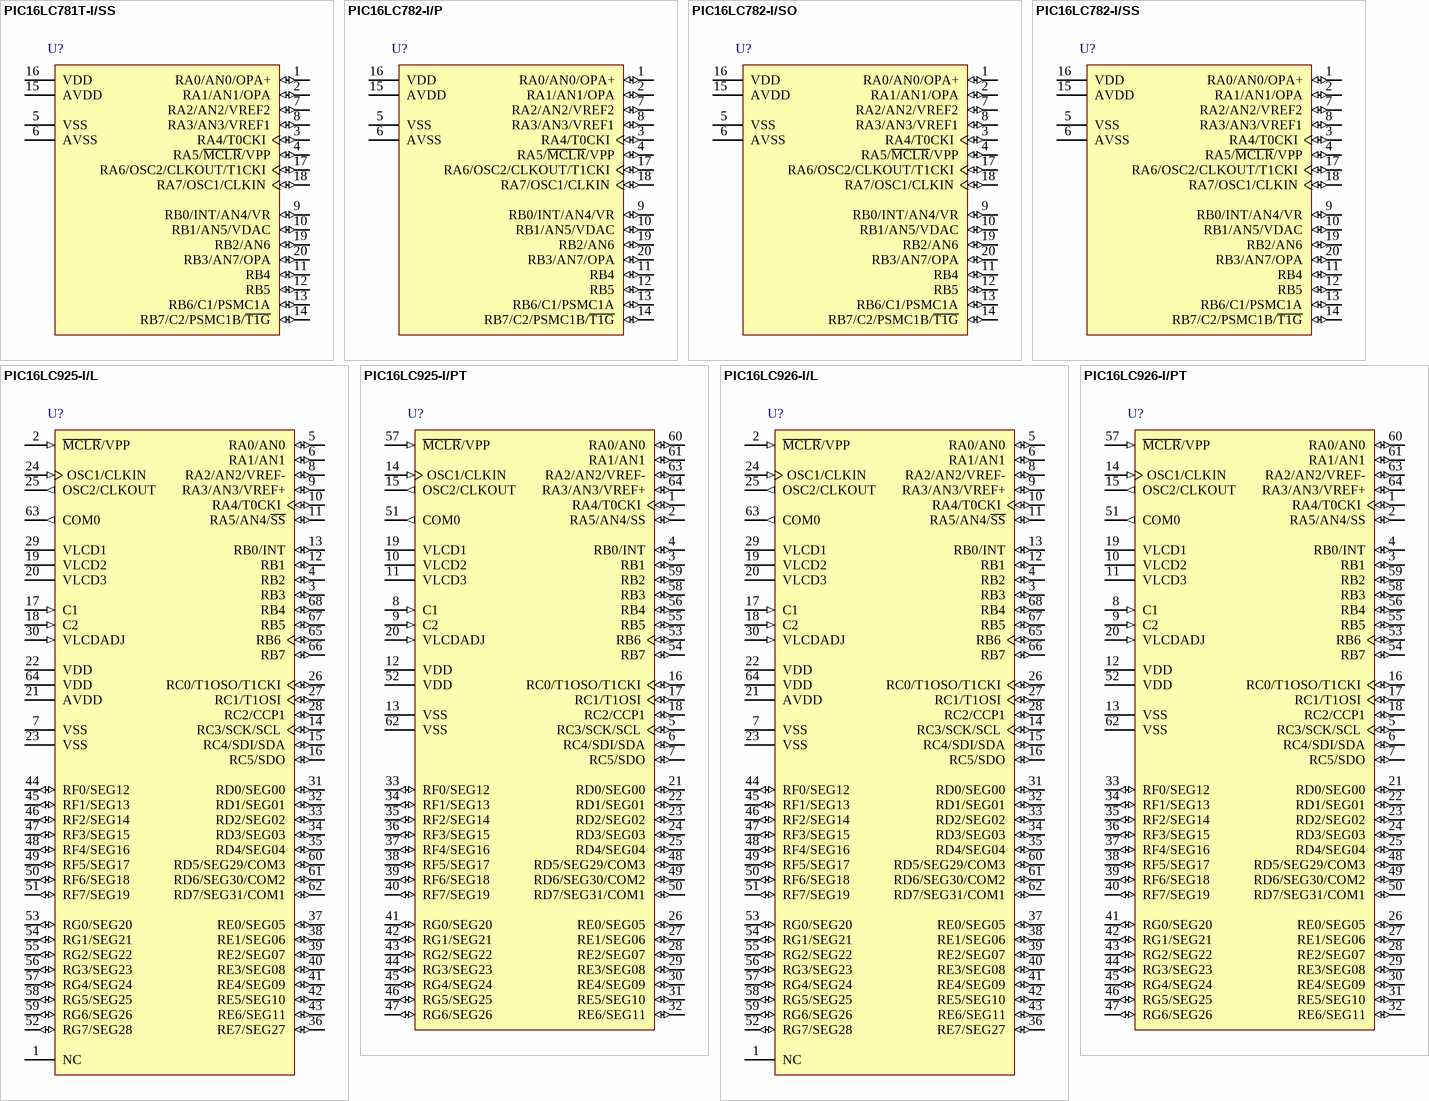
[diagram p97: symbols PIC16LC781T-I/SS to PIC16LC926-I/PT]

## PIC16LC781T-I/SS
designator U?
8-Bit CMOS Microcontroller with A/D, D/A, OPAMP, Comparators and PSMC, 1K (x14-Bit words) EPROM, 128 Bytes RAM, 20-Pin SSOP, 2.7 to 5.5V Supply Range, Industrial Temperature, Tape and Reel; Manufacturer: Microchip; PartNumber: PIC16LC781T-I/SS; Note: AVDD and AVSS pins are used for modules C1, C2, OPA, DAC, ADC, and VR.; DatasheetVersion: revA, Nov-2002; PackageVersion: revBB, Aug-2009; PackageReference: SSOP-SS20; PackageDescription: 20-Lead Plastic Shrink Small Outline (SS) - 5.3mm Body [SSOP]; Supplier 1: Digi-Key; Supplier Part Number 1: PIC16LC781T-I/SS-ND; Supplier 2: Mouser; Supplier Part Number 2: 579-PIC16LC781T-I/SS; Code_JEDEC: MO-150; ComponentLink1Description: Manufacturer URL; ComponentLink1URL: http://www.microchip.com/; ComponentLink2Description: Datasheet; ComponentLink2URL: http://ww1.microchip.com/downloads/en/DeviceDoc/41171a.pdf; ComponentLink3Description: Package Specification; ComponentLink3URL: http://www.microchip.com/stellent/groups/techpub_sg/documents/packagingspec/en012702.pdf
footprint SSOP-SS20_N (SOP, 20-Leads, Body 7.2x5.2mm, Pitch 0.65mm, IPC Medium Density)
footprint SSOP-SS20_L (SOP, 20-Leads, Body 7.2x5.2mm, Pitch 0.65mm, IPC High Density)
footprint SSOP-SS20_M (SOP, 20-Leads, Body 7.2x5.2mm, Pitch 0.65mm, IPC Low Density)
pins: 1 RA0/AN0/OPA+ (io), 2 RA1/AN1/OPA (io), 3 RA4/T0CKI (io), 4 RA5/~{MCLR}/VPP (io), 5 VSS (power), 6 AVSS (power), 7 RA2/AN2/VREF2 (io), 8 RA3/AN3/VREF1 (io), 9 RB0/INT/AN4/VR (io), 10 RB1/AN5/VDAC (io), 11 RB4 (io), 12 RB5 (io), 13 RB6/C1/PSMC1A (io), 14 RB7/C2/PSMC1B/~{T1G} (io), 15 AVDD (power), 16 VDD (power), 17 RA6/OSC2/CLKOUT/T1CKI (io), 18 RA7/OSC1/CLKIN (io), 19 RB2/AN6 (io), 20 RB3/AN7/OPA (io)

## PIC16LC782-I/P
designator U?
8-Bit CMOS Microcontroller with A/D, D/A, OPAMP, Comparators and PSMC, 2K (x14-Bit words) EPROM, 128 Bytes RAM, 20-Pin PDIP, 2.7 to 5.5V Supply Range, Industrial Temperature; Manufacturer: Microchip; PartNumber: PIC16LC782-I/P; Note: AVDD and AVSS pins are used for modules C1, C2, OPA, DAC, ADC, and VR.; DatasheetVersion: revA, Nov-2002; PackageVersion: revBB, Aug-2009; PackageReference: PDIP300-P20; PackageDescription: 20-Lead Plastic Dual In-Line (P) - 300 mil Body [PDIP]; Supplier 1: Digi-Key; Supplier Part Number 1: PIC16LC782-I/P-ND; Supplier 2: Mouser; Supplier Part Number 2: 579-PIC16LC782-I/P; ComponentLink1Description: Manufacturer URL; ComponentLink1URL: http://www.microchip.com/; ComponentLink2Description: Datasheet; ComponentLink2URL: http://ww1.microchip.com/downloads/en/DeviceDoc/41171a.pdf; ComponentLink3Description: Package Specification; ComponentLink3URL: http://www.microchip.com/stellent/groups/techpub_sg/documents/packagingspec/en012702.pdf
footprint PDIP300-P20 (DIP, 20-Leads, Row Spacing 7.62mm, Pitch 2.54mm, Body 25.9x6.6mm)
pins: 1 RA0/AN0/OPA+ (io), 2 RA1/AN1/OPA (io), 3 RA4/T0CKI (io), 4 RA5/~{MCLR}/VPP (io), 5 VSS (power), 6 AVSS (power), 7 RA2/AN2/VREF2 (io), 8 RA3/AN3/VREF1 (io), 9 RB0/INT/AN4/VR (io), 10 RB1/AN5/VDAC (io), 11 RB4 (io), 12 RB5 (io), 13 RB6/C1/PSMC1A (io), 14 RB7/C2/PSMC1B/~{T1G} (io), 15 AVDD (power), 16 VDD (power), 17 RA6/OSC2/CLKOUT/T1CKI (io), 18 RA7/OSC1/CLKIN (io), 19 RB2/AN6 (io), 20 RB3/AN7/OPA (io)

## PIC16LC782-I/SO
designator U?
8-Bit CMOS Microcontroller with A/D, D/A, OPAMP, Comparators and PSMC, 2K (x14-Bit words) EPROM, 128 Bytes RAM, 20-Pin SOIC, 2.7 to 5.5V Supply Range, Industrial Temperature; Manufacturer: Microchip; PartNumber: PIC16LC782-I/SO; Note: AVDD and AVSS pins are used for modules C1, C2, OPA, DAC, ADC, and VR.; DatasheetVersion: revA, Nov-2002; PackageVersion: revBB, Aug-2009; PackageReference: SOIC-SO20; PackageDescription: 20-Lead Plastic Small Outline (SO) - Wide 7.50mm Body [SOIC]; Supplier 1: Digi-Key; Supplier Part Number 1: PIC16LC782-I/SO-ND; Supplier 2: Mouser; Supplier Part Number 2: 579-PIC16LC782-I/SO; Code_JEDEC: MS-013-AC; Code_IPC: SOIC127P1030-20; ComponentLink1Description: Manufacturer URL; ComponentLink1URL: http://www.microchip.com/; ComponentLink2Description: Datasheet; ComponentLink2URL: http://ww1.microchip.com/downloads/en/DeviceDoc/41171a.pdf; ComponentLink3Description: Package Specification; ComponentLink3URL: http://www.microchip.com/stellent/groups/techpub_sg/documents/packagingspec/en012702.pdf
footprint SOIC-SO20_N (SOIC, 20-Leads, Body 12.8x7.5mm, Pitch 1.27mm, IPC Medium Density)
footprint SOIC-SO20_L (SOIC, 20-Leads, Body 12.8x7.5mm, Pitch 1.27mm, IPC High Density)
footprint SOIC-SO20_M (SOIC, 20-Leads, Body 12.8x7.5mm, Pitch 1.27mm, IPC Low Density)
pins: 1 RA0/AN0/OPA+ (io), 2 RA1/AN1/OPA (io), 3 RA4/T0CKI (io), 4 RA5/~{MCLR}/VPP (io), 5 VSS (power), 6 AVSS (power), 7 RA2/AN2/VREF2 (io), 8 RA3/AN3/VREF1 (io), 9 RB0/INT/AN4/VR (io), 10 RB1/AN5/VDAC (io), 11 RB4 (io), 12 RB5 (io), 13 RB6/C1/PSMC1A (io), 14 RB7/C2/PSMC1B/~{T1G} (io), 15 AVDD (power), 16 VDD (power), 17 RA6/OSC2/CLKOUT/T1CKI (io), 18 RA7/OSC1/CLKIN (io), 19 RB2/AN6 (io), 20 RB3/AN7/OPA (io)

## PIC16LC782-I/SS
designator U?
8-Bit CMOS Microcontroller with A/D, D/A, OPAMP, Comparators and PSMC, 2K (x14-Bit words) EPROM, 128 Bytes RAM, 20-Pin SSOP, 2.7 to 5.5V Supply Range, Industrial Temperature; Manufacturer: Microchip; PartNumber: PIC16LC782-I/SS; DatasheetVersion: revA, Nov-2002; PackageVersion: revBB, Aug-2009; PackageReference: SSOP-SS20; PackageDescription: 20-Lead Plastic Shrink Small Outline (SS) - 5.3mm Body [SSOP]; Supplier 1: Digi-Key; Supplier Part Number 1: PIC16LC782-I/SS-ND; Supplier 2: Mouser; Supplier Part Number 2: 579-PIC16LC782-I/SS; Code_JEDEC: MO-150; ComponentLink1Description: Manufacturer URL; ComponentLink1URL: http://www.microchip.com/; ComponentLink2Description: Datasheet; ComponentLink2URL: http://ww1.microchip.com/downloads/en/DeviceDoc/41171a.pdf; ComponentLink3Description: Package Specification; ComponentLink3URL: http://www.microchip.com/stellent/groups/techpub_sg/documents/packagingspec/en012702.pdf
footprint SSOP-SS20_N (SOP, 20-Leads, Body 7.2x5.2mm, Pitch 0.65mm, IPC Medium Density)
footprint SSOP-SS20_L (SOP, 20-Leads, Body 7.2x5.2mm, Pitch 0.65mm, IPC High Density)
footprint SSOP-SS20_M (SOP, 20-Leads, Body 7.2x5.2mm, Pitch 0.65mm, IPC Low Density)
pins: 1 RA0/AN0/OPA+ (io), 2 RA1/AN1/OPA (io), 3 RA4/T0CKI (io), 4 RA5/~{MCLR}/VPP (io), 5 VSS (power), 6 AVSS (power), 7 RA2/AN2/VREF2 (io), 8 RA3/AN3/VREF1 (io), 9 RB0/INT/AN4/VR (io), 10 RB1/AN5/VDAC (io), 11 RB4 (io), 12 RB5 (io), 13 RB6/C1/PSMC1A (io), 14 RB7/C2/PSMC1B/~{T1G} (io), 15 AVDD (power), 16 VDD (power), 17 RA6/OSC2/CLKOUT/T1CKI (io), 18 RA7/OSC1/CLKIN (io), 19 RB2/AN6 (io), 20 RB3/AN7/OPA (io)

## PIC16LC925-I/L
designator U?
CMOS Microcontroller with LCD Drivers, 4K (x14-Bit words) EPROM, 176 Bytes SRAM, 68-Pin PLCC, 2.5 to 5.5V Supply Range, Industrial Temperature; Manufacturer: Microchip; PartNumber: PIC16LC925-I/L; DatasheetVersion: revA, Feb-2001; PackageVersion: revBB, Aug-2009; PackageReference: PLCC-L68; PackageDescription: 68-Lead Plastic Leaded Chip Carrier (L) - Square [PLCC]; Supplier 1: Digi-Key; Supplier Part Number 1: PIC16LC925-I/L-ND; Supplier 2: Mouser; Supplier Part Number 2: 579-PIC16LC925-I/L; Code_JEDEC: MO-047; Code_IPC: PLCC-68; ComponentLink1Description: Manufacturer URL; ComponentLink1URL: http://www.microchip.com/; ComponentLink2Description: Datasheet; ComponentLink2URL: http://ww1.microchip.com/downloads/en/DeviceDoc/39544a.pdf; ComponentLink3Description: Package Specification; ComponentLink3URL: http://www.microchip.com/stellent/groups/techpub_sg/documents/packagingspec/en012702.pdf
footprint PLCC-L68_N (Leaded Chip Carrier, 68-Leads, Body 24x24mm, Pitch 1.27mm, IPC Medium Density)
footprint PLCC-L68_L (Leaded Chip Carrier, 68-Leads, Body 24x24mm, Pitch 1.27mm, IPC High Density)
footprint PLCC-L68_M (Leaded Chip Carrier, 68-Leads, Body 24x24mm, Pitch 1.27mm, IPC Low Density)
pins: 1 NC, 2 ~{MCLR}/VPP (in), 3 RB3 (io), 4 RB2 (io), 5 RA0/AN0 (io), 6 RA1/AN1 (io), 7 VSS (power), 8 RA2/AN2/VREF- (io), 9 RA3/AN3/VREF+ (io), 10 RA4/T0CKI (io), 11 RA5/AN4/~{SS} (io), 12 RB1 (io), 13 RB0/INT (io), 14 RC3/SCK/SCL (io), 15 RC4/SDI/SDA (io), 16 RC5/SDO (io), 17 C1 (in), 18 C2 (in), 19 VLCD2 (power), 20 VLCD3 (power), 21 AVDD (power), 22 VDD (power), 23 VSS (power), 24 OSC1/CLKIN (in), 25 OSC2/CLKOUT (out), 26 RC0/T1OSO/T1CKI (io), 27 RC1/T1OSI (io), 28 RC2/CCP1 (io), 29 VLCD1 (power), 30 VLCDADJ (in), 31 RD0/SEG00 (io), 32 RD1/SEG01 (io), 33 RD2/SEG02 (io), 34 RD3/SEG03 (io), 35 RD4/SEG04 (io), 36 RE7/SEG27 (io), 37 RE0/SEG05 (io), 38 RE1/SEG06 (io), 39 RE2/SEG07 (io), 40 RE3/SEG08 (io), 41 RE4/SEG09 (io), 42 RE5/SEG10 (io), 43 RE6/SEG11 (io), 44 RF0/SEG12 (io), 45 RF1/SEG13 (io), 46 RF2/SEG14 (io), 47 RF3/SEG15 (io), 48 RF4/SEG16 (io), 49 RF5/SEG17 (io), 50 RF6/SEG18 (io), 51 RF7/SEG19 (io), 52 RG7/SEG28 (io), 53 RG0/SEG20 (io), 54 RG1/SEG21 (io), 55 RG2/SEG22 (io), 56 RG3/SEG23 (io), 57 RG4/SEG24 (io), 58 RG5/SEG25 (io), 59 RG6/SEG26 (io), 60 RD5/SEG29/COM3 (io), 61 RD6/SEG30/COM2 (io), 62 RD7/SEG31/COM1 (io), 63 COM0 (out), 64 VDD (power), 65 RB6 (io), 66 RB7 (io), 67 RB5 (io), 68 RB4 (io)

## PIC16LC925-I/PT
designator U?
CMOS Microcontroller with LCD Drivers, 4K (x14-Bit words) EPROM, 176 Bytes SRAM, 64-Pin TQFP, 2.5 to 5.5V Supply Range, Industrial Temperature; Manufacturer: Microchip; PartNumber: PIC16LC925-I/PT; DatasheetVersion: revA, Feb-2001; PackageVersion: revBB, Aug-2009; PackageReference: TQFP-PT64; PackageDescription: 64-Lead Thin Plastic Quad Flat Pack (PT) - 10x10x1mm Body, 2.00mm [TQFP]; Supplier 1: Digi-Key; Supplier Part Number 1: PIC16LC925-I/PT-ND; Supplier 2: Mouser; Supplier Part Number 2: 579-PIC16LC925-I/PT; Code_JEDEC: MS-026; ComponentLink1Description: Manufacturer URL; ComponentLink1URL: http://www.microchip.com/; ComponentLink2Description: Datasheet; ComponentLink2URL: http://ww1.microchip.com/downloads/en/DeviceDoc/39544a.pdf; ComponentLink3Description: Package Specification; ComponentLink3URL: http://www.microchip.com/stellent/groups/techpub_sg/documents/packagingspec/en012702.pdf
footprint TQFP-PT64_N (Thin QFP, 64-Leads, Body 10x10mm, Pitch 0.5mm, IPC Medium Density)
footprint TQFP-PT64_L (Thin QFP, 64-Leads, Body 10x10mm, Pitch 0.5mm, IPC High Density)
footprint TQFP-PT64_M (Thin QFP, 64-Leads, Body 10x10mm, Pitch 0.5mm, IPC Low Density)
pins: 1 RA4/T0CKI (io), 2 RA5/AN4/SS (io), 3 RB1 (io), 4 RB0/INT (io), 5 RC3/SCK/SCL (io), 6 RC4/SDI/SDA (io), 7 RC5/SDO (io), 8 C1 (in), 9 C2 (in), 10 VLCD2 (power), 11 VLCD3 (power), 12 VDD (power), 13 VSS (power), 14 OSC1/CLKIN (in), 15 OSC2/CLKOUT (out), 16 RC0/T1OSO/T1CKI (io), 17 RC1/T1OSI (io), 18 RC2/CCP1 (io), 19 VLCD1 (power), 20 VLCDADJ (in), 21 RD0/SEG00 (io), 22 RD1/SEG01 (io), 23 RD2/SEG02 (io), 24 RD3/SEG03 (io), 25 RD4/SEG04 (io), 26 RE0/SEG05 (io), 27 RE1/SEG06 (io), 28 RE2/SEG07 (io), 29 RE3/SEG08 (io), 30 RE4/SEG09 (io), 31 RE5/SEG10 (io), 32 RE6/SEG11 (io), 33 RF0/SEG12 (io), 34 RF1/SEG13 (io), 35 RF2/SEG14 (io), 36 RF3/SEG15 (io), 37 RF4/SEG16 (io), 38 RF5/SEG17 (io), 39 RF6/SEG18 (io), 40 RF7/SEG19 (io), 41 RG0/SEG20 (io), 42 RG1/SEG21 (io), 43 RG2/SEG22 (io), 44 RG3/SEG23 (io), 45 RG4/SEG24 (io), 46 RG5/SEG25 (io), 47 RG6/SEG26 (io), 48 RD5/SEG29/COM3 (io), 49 RD6/SEG30/COM2 (io), 50 RD7/SEG31/COM1 (io), 51 COM0 (out), 52 VDD (power), 53 RB6 (io), 54 RB7 (io), 55 RB5 (io), 56 RB4 (io), 57 ~{MCLR}/VPP (in), 58 RB3 (io), 59 RB2 (io), 60 RA0/AN0 (io), 61 RA1/AN1 (io), 62 VSS (power), 63 RA2/AN2/VREF- (io), 64 RA3/AN3/VREF+ (io)

## PIC16LC926-I/L
designator U?
CMOS Microcontroller with LCD Drivers, 8K (x14-Bit words) EPROM, 336 Bytes SRAM, 68-Pin PLCC, 2.5 to 5.5V Supply Range, Industrial Temperature; Manufacturer: Microchip; PartNumber: PIC16LC926-I/L; DatasheetVersion: revA, Feb-2001; PackageVersion: revBB, Aug-2009; PackageReference: PLCC-L68; PackageDescription: 68-Lead Plastic Leaded Chip Carrier (L) - Square [PLCC]; Supplier 1: Digi-Key; Supplier Part Number 1: PIC16LC926-I/L-ND; Supplier 2: Mouser; Supplier Part Number 2: 579-PIC16LC926-I/L; Code_JEDEC: MO-047; Code_IPC: PLCC-68; ComponentLink1Description: Manufacturer URL; ComponentLink1URL: http://www.microchip.com/; ComponentLink2Description: Datasheet; ComponentLink2URL: http://ww1.microchip.com/downloads/en/DeviceDoc/39544a.pdf; ComponentLink3Description: Package Specification; ComponentLink3URL: http://www.microchip.com/stellent/groups/techpub_sg/documents/packagingspec/en012702.pdf
footprint PLCC-L68_N (Leaded Chip Carrier, 68-Leads, Body 24x24mm, Pitch 1.27mm, IPC Medium Density)
footprint PLCC-L68_L (Leaded Chip Carrier, 68-Leads, Body 24x24mm, Pitch 1.27mm, IPC High Density)
footprint PLCC-L68_M (Leaded Chip Carrier, 68-Leads, Body 24x24mm, Pitch 1.27mm, IPC Low Density)
pins: 1 NC, 2 ~{MCLR}/VPP (in), 3 RB3 (io), 4 RB2 (io), 5 RA0/AN0 (io), 6 RA1/AN1 (io), 7 VSS (power), 8 RA2/AN2/VREF- (io), 9 RA3/AN3/VREF+ (io), 10 RA4/T0CKI (io), 11 RA5/AN4/~{SS} (io), 12 RB1 (io), 13 RB0/INT (io), 14 RC3/SCK/SCL (io), 15 RC4/SDI/SDA (io), 16 RC5/SDO (io), 17 C1 (in), 18 C2 (in), 19 VLCD2 (power), 20 VLCD3 (power), 21 AVDD (power), 22 VDD (power), 23 VSS (power), 24 OSC1/CLKIN (in), 25 OSC2/CLKOUT (out), 26 RC0/T1OSO/T1CKI (io), 27 RC1/T1OSI (io), 28 RC2/CCP1 (io), 29 VLCD1 (power), 30 VLCDADJ (in), 31 RD0/SEG00 (io), 32 RD1/SEG01 (io), 33 RD2/SEG02 (io), 34 RD3/SEG03 (io), 35 RD4/SEG04 (io), 36 RE7/SEG27 (io), 37 RE0/SEG05 (io), 38 RE1/SEG06 (io), 39 RE2/SEG07 (io), 40 RE3/SEG08 (io), 41 RE4/SEG09 (io), 42 RE5/SEG10 (io), 43 RE6/SEG11 (io), 44 RF0/SEG12 (io), 45 RF1/SEG13 (io), 46 RF2/SEG14 (io), 47 RF3/SEG15 (io), 48 RF4/SEG16 (io), 49 RF5/SEG17 (io), 50 RF6/SEG18 (io), 51 RF7/SEG19 (io), 52 RG7/SEG28 (io), 53 RG0/SEG20 (io), 54 RG1/SEG21 (io), 55 RG2/SEG22 (io), 56 RG3/SEG23 (io), 57 RG4/SEG24 (io), 58 RG5/SEG25 (io), 59 RG6/SEG26 (io), 60 RD5/SEG29/COM3 (io), 61 RD6/SEG30/COM2 (io), 62 RD7/SEG31/COM1 (io), 63 COM0 (out), 64 VDD (power), 65 RB6 (io), 66 RB7 (io), 67 RB5 (io), 68 RB4 (io)

## PIC16LC926-I/PT
designator U?
CMOS Microcontroller with LCD Drivers, 8K (x14-Bit words) EPROM, 336 Bytes SRAM, 64-Pin TQFP, 2.5 to 5.5V Supply Range, Industrial Temperature; Manufacturer: Microchip; PartNumber: PIC16LC926-I/PT; DatasheetVersion: revA, Feb-2001; PackageVersion: revBB, Aug-2009; PackageReference: TQFP-PT64; PackageDescription: 64-Lead Thin Plastic Quad Flat Pack (PT) - 10x10x1mm Body, 2.00mm [TQFP]; Supplier 1: Digi-Key; Supplier Part Number 1: PIC16LC926-I/PT-ND; Supplier 2: Newark; Supplier Part Number 2: 92C4836; Supplier 3: Mouser; Supplier Part Number 3: 579-PIC16LC926-I/PT; Code_JEDEC: MS-026; ComponentLink1Description: Manufacturer URL; ComponentLink1URL: http://www.microchip.com/; ComponentLink2Description: Datasheet; ComponentLink2URL: http://ww1.microchip.com/downloads/en/DeviceDoc/39544a.pdf; ComponentLink3Description: Package Specification; ComponentLink3URL: http://www.microchip.com/stellent/groups/techpub_sg/documents/packagingspec/en012702.pdf
footprint TQFP-PT64_N (Thin QFP, 64-Leads, Body 10x10mm, Pitch 0.5mm, IPC Medium Density)
footprint TQFP-PT64_L (Thin QFP, 64-Leads, Body 10x10mm, Pitch 0.5mm, IPC High Density)
footprint TQFP-PT64_M (Thin QFP, 64-Leads, Body 10x10mm, Pitch 0.5mm, IPC Low Density)
pins: 1 RA4/T0CKI (io), 2 RA5/AN4/SS (io), 3 RB1 (io), 4 RB0/INT (io), 5 RC3/SCK/SCL (io), 6 RC4/SDI/SDA (io), 7 RC5/SDO (io), 8 C1 (in), 9 C2 (in), 10 VLCD2 (power), 11 VLCD3 (power), 12 VDD (power), 13 VSS (power), 14 OSC1/CLKIN (in), 15 OSC2/CLKOUT (out), 16 RC0/T1OSO/T1CKI (io), 17 RC1/T1OSI (io), 18 RC2/CCP1 (io), 19 VLCD1 (power), 20 VLCDADJ (in), 21 RD0/SEG00 (io), 22 RD1/SEG01 (io), 23 RD2/SEG02 (io), 24 RD3/SEG03 (io), 25 RD4/SEG04 (io), 26 RE0/SEG05 (io), 27 RE1/SEG06 (io), 28 RE2/SEG07 (io), 29 RE3/SEG08 (io), 30 RE4/SEG09 (io), 31 RE5/SEG10 (io), 32 RE6/SEG11 (io), 33 RF0/SEG12 (io), 34 RF1/SEG13 (io), 35 RF2/SEG14 (io), 36 RF3/SEG15 (io), 37 RF4/SEG16 (io), 38 RF5/SEG17 (io), 39 RF6/SEG18 (io), 40 RF7/SEG19 (io), 41 RG0/SEG20 (io), 42 RG1/SEG21 (io), 43 RG2/SEG22 (io), 44 RG3/SEG23 (io), 45 RG4/SEG24 (io), 46 RG5/SEG25 (io), 47 RG6/SEG26 (io), 48 RD5/SEG29/COM3 (io), 49 RD6/SEG30/COM2 (io), 50 RD7/SEG31/COM1 (io), 51 COM0 (out), 52 VDD (power), 53 RB6 (io), 54 RB7 (io), 55 RB5 (io), 56 RB4 (io), 57 ~{MCLR}/VPP (in), 58 RB3 (io), 59 RB2 (io), 60 RA0/AN0 (io), 61 RA1/AN1 (io), 62 VSS (power), 63 RA2/AN2/VREF- (io), 64 RA3/AN3/VREF+ (io)

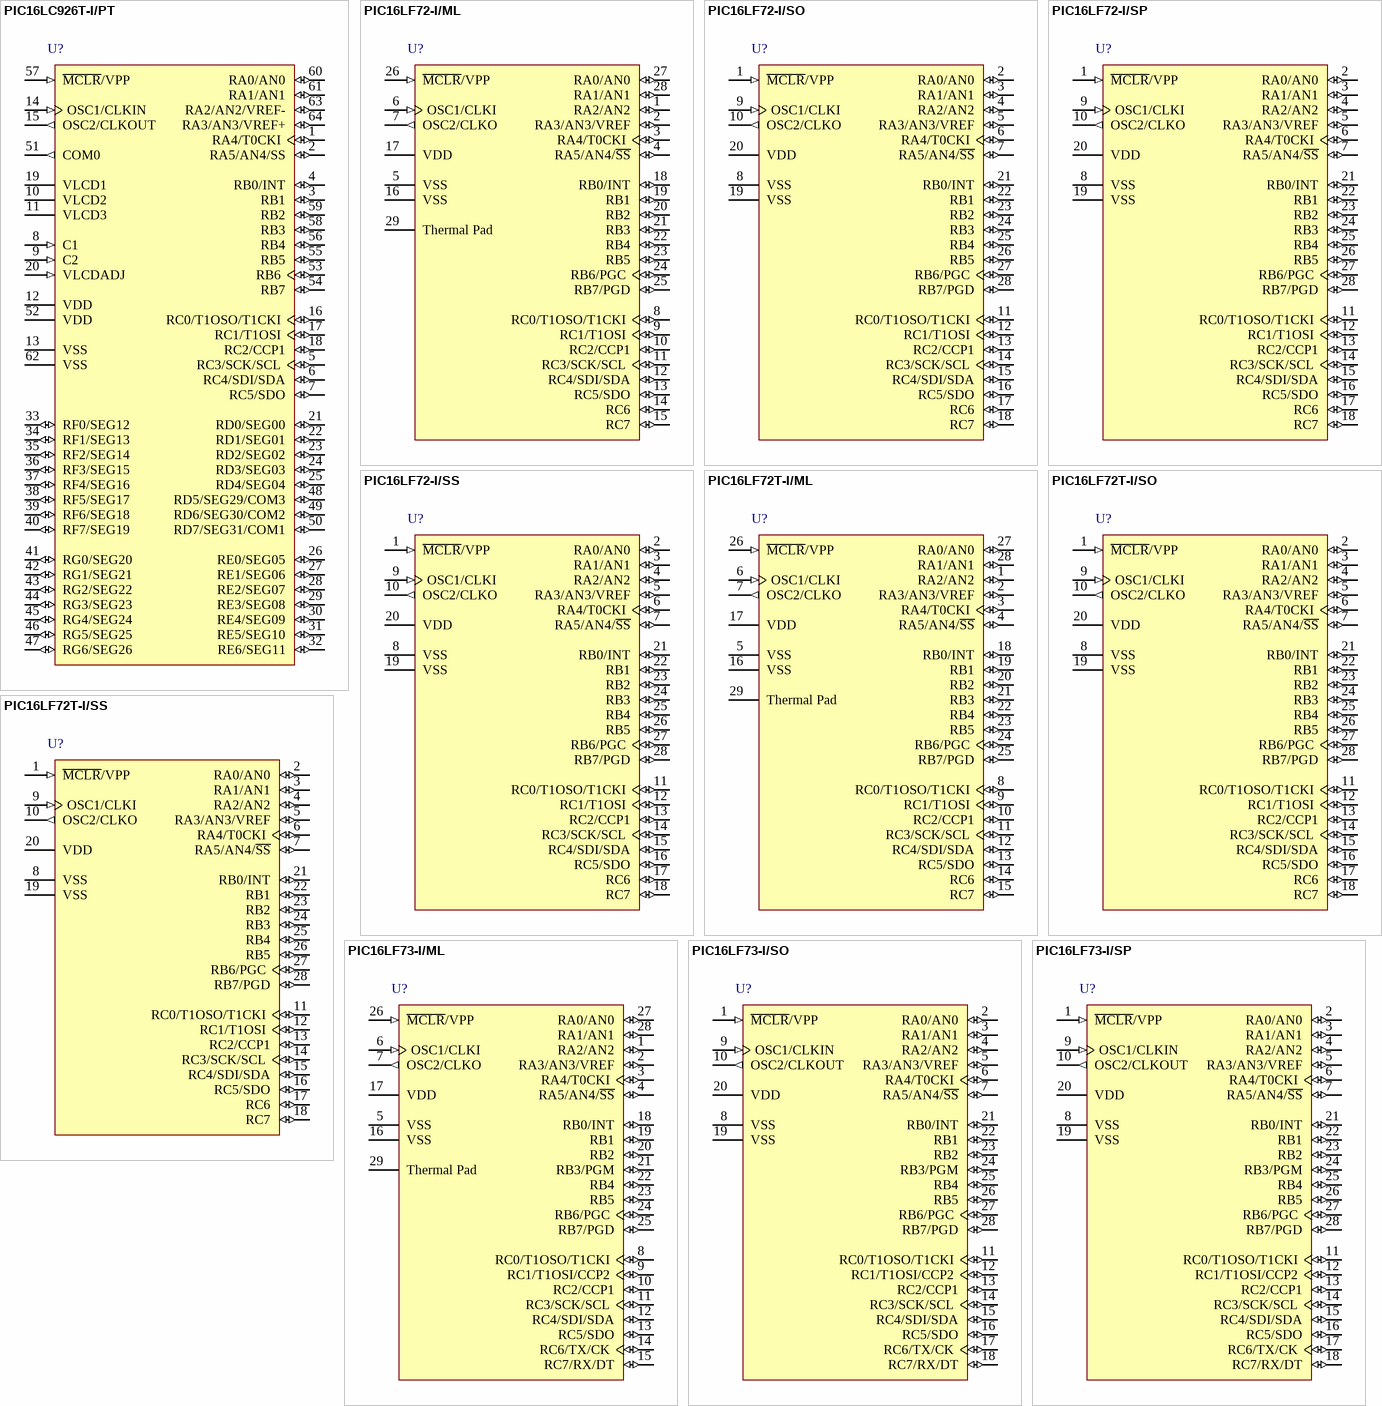
[diagram p98: symbols PIC16LC926T-I/PT to PIC16LF73-I/SP]

## PIC16LC926T-I/PT
designator U?
CMOS Microcontroller with LCD Driver, 8K (x14-Bit words) Program Memory, 336 Bytes Data Memory, 25 I/O pins, 64-Pin TQFP, Extended VDD Range, Industrial Temperature, Tape and Reel; Manufacturer: Microchip; PartNumber: PIC16LC926T-I/PT; DatasheetVersion: revA, Feb-2001; PackageVersion: revBB, Aug-2009; PackageReference: TQFP-PT64; PackageDescription: 64-Lead Thin Plastic Quad Flat Pack (PT) - 10x10x1mm Body, 2.00mm [TQFP]; Supplier 1: Digi-Key; Supplier Part Number 1: PIC16LC926T-I/PT-ND; Supplier 2: Mouser; Supplier Part Number 2: 579-PIC16LC926T-I/PT; Code_JEDEC: MS-026; ComponentLink1Description: Manufacturer URL; ComponentLink1URL: http://www.microchip.com/; ComponentLink2Description: Datasheet; ComponentLink2URL: http://ww1.microchip.com/downloads/en/DeviceDoc/39544a.pdf; ComponentLink3Description: Package Specification; ComponentLink3URL: http://www.microchip.com/stellent/groups/techpub_sg/documents/packagingspec/en012702.pdf
footprint TQFP-PT64_N (Thin QFP, 64-Leads, Body 10x10mm, Pitch 0.5mm, IPC Medium Density)
footprint TQFP-PT64_L (Thin QFP, 64-Leads, Body 10x10mm, Pitch 0.5mm, IPC High Density)
footprint TQFP-PT64_M (Thin QFP, 64-Leads, Body 10x10mm, Pitch 0.5mm, IPC Low Density)
pins: 1 RA4/T0CKI (io), 2 RA5/AN4/SS (io), 3 RB1 (io), 4 RB0/INT (io), 5 RC3/SCK/SCL (io), 6 RC4/SDI/SDA (io), 7 RC5/SDO (io), 8 C1 (in), 9 C2 (in), 10 VLCD2 (power), 11 VLCD3 (power), 12 VDD (power), 13 VSS (power), 14 OSC1/CLKIN (in), 15 OSC2/CLKOUT (out), 16 RC0/T1OSO/T1CKI (io), 17 RC1/T1OSI (io), 18 RC2/CCP1 (io), 19 VLCD1 (power), 20 VLCDADJ (in), 21 RD0/SEG00 (io), 22 RD1/SEG01 (io), 23 RD2/SEG02 (io), 24 RD3/SEG03 (io), 25 RD4/SEG04 (io), 26 RE0/SEG05 (io), 27 RE1/SEG06 (io), 28 RE2/SEG07 (io), 29 RE3/SEG08 (io), 30 RE4/SEG09 (io), 31 RE5/SEG10 (io), 32 RE6/SEG11 (io), 33 RF0/SEG12 (io), 34 RF1/SEG13 (io), 35 RF2/SEG14 (io), 36 RF3/SEG15 (io), 37 RF4/SEG16 (io), 38 RF5/SEG17 (io), 39 RF6/SEG18 (io), 40 RF7/SEG19 (io), 41 RG0/SEG20 (io), 42 RG1/SEG21 (io), 43 RG2/SEG22 (io), 44 RG3/SEG23 (io), 45 RG4/SEG24 (io), 46 RG5/SEG25 (io), 47 RG6/SEG26 (io), 48 RD5/SEG29/COM3 (io), 49 RD6/SEG30/COM2 (io), 50 RD7/SEG31/COM1 (io), 51 COM0 (out), 52 VDD (power), 53 RB6 (io), 54 RB7 (io), 55 RB5 (io), 56 RB4 (io), 57 ~{MCLR}/VPP (in), 58 RB3 (io), 59 RB2 (io), 60 RA0/AN0 (io), 61 RA1/AN1 (io), 62 VSS (power), 63 RA2/AN2/VREF- (io), 64 RA3/AN3/VREF+ (io)